# Altium schematic symbol library afstandsbediening_library.SchLib: 23 symbols
Pins are listed as number, name and electrical type; pins without a type are passive.

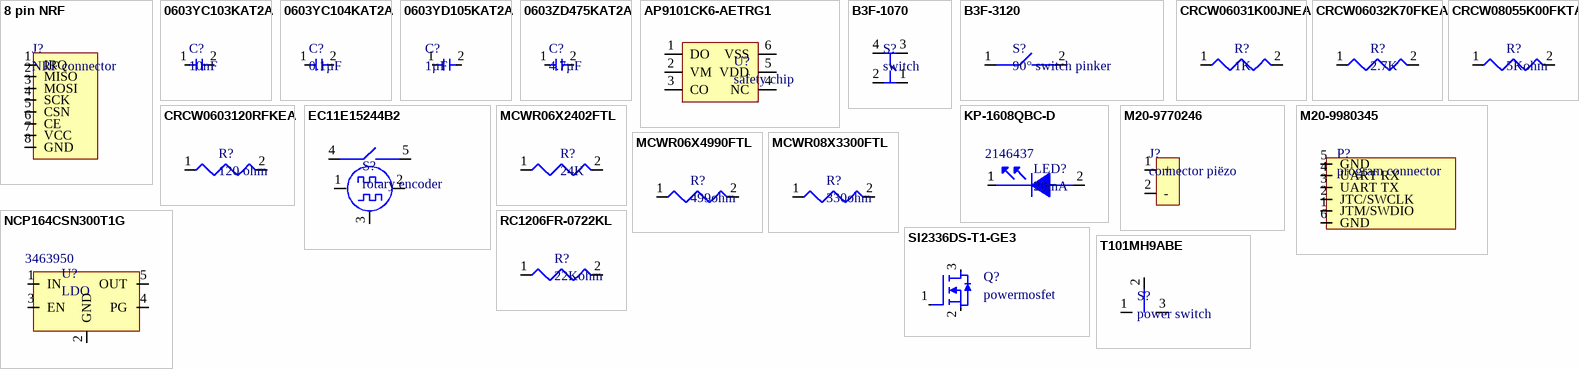
[diagram p0: symbols 8 pin NRF to T101MH9ABE]

## 8 pin NRF
designator J?, comment NRF connector
footprint 8 pin RF
footprint 8 pin RF
footprint 8 pin RF
footprint 8 pin RF
pins: 1 IRQ, 2 MISO, 3 MOSI, 4 SCK, 5 CSN, 6 CE, 7 VCC, 8 GND

## 0603YC103KAT2A
designator C?, comment 10nF
AVX - 0603YC103KAT2A - SMD Multilayer Ceramic Capacitor, 10000 pF, 16 V, 0603 [1608 Metric], ± 10%, X7R, AVX 0603 MLCC; Manufacturer: Kyocera AVX; Voltage Rating (DC): 16V; Dissipation Factor: 3.5%; Supplier 1: Farnell; Manufacturer Part Number: 0603YC103KAT2A; RoHS: Yes; Category: Ceramic Capacitors; Stock 1: 10219; Pricing 1: 10=0.05050, 100=0.04160, 500=0.03270, 1000=0.02510, 2000=0.02040, 4000=0.01630, 20000=0.01090 (EUR); Mount: Surface Mount; Case/Package: 0603; Case Code (Metric): 1608; Case Code (Imperial): 0603; Min Operating Temperature: -55°C; Max Operating Temperature: 125°C; Capacitance: 10nF; Tolerance: 10%; Dielectric: X7R; Packaging: Tape and Reel; Voltage Rating: 16V; Package Quantity: 1; Termination: SMD/SMT; Voltage: 16V; Series: -; Construction: Flat; Length: 1.6mm; Width: 0.032inch; Depth: 0.81mm; Thickness: 0.035inch; Radiation Hardening: No; REACH SVHC: No SVHC; Lead Free: Lead Free; RoHS Compliant: Yes; ComponentLink1URL: https://datasheet.ciiva.com/150/cx7r-150743.pdf?src-supplier=Digi-Key; ComponentLink1Description: https://datasheet.ciiva.com/150/cx7r-150743.pdf?src-supplier=Digi-Key; ComponentLink2URL: https://datasheet.ciiva.com/22683/1679506-22683367.pdf?src-supplier=Element14; ComponentLink2Description: https://datasheet.ciiva.com/22683/1679506-22683367.pdf?src-supplier=Element14; ComponentLink3URL: https://datasheet.ciiva.com/150/cx7r-150744.pdf?src-supplier=Digi-Key; ComponentLink3Description: https://datasheet.ciiva.com/150/cx7r-150744.pdf?src-supplier=Digi-Key; ComponentLink4URL: https://datasheet.ciiva.com/150/cx7r-150745.pdf?src-supplier=Digi-Key; ComponentLink4Description: https://datasheet.ciiva.com/150/cx7r-150745.pdf?src-supplier=Digi-Key; ComponentLink5URL: https://datasheet.ciiva.com/22699/1679506-22699610.pdf?src-supplier=Element14; ComponentLink5Description: https://datasheet.ciiva.com/22699/1679506-22699610.pdf?src-supplier=Element14; ComponentLink6URL: https://datasheet.ciiva.com/5412/cx7r-218113-5412060.pdf?src-supplier=Mouser; ComponentLink6Description: https://datasheet.ciiva.com/5412/cx7r-218113-5412060.pdf?src-supplier=Mouser; ComponentLink7URL: https://datasheet.ciiva.com/7855/1679506-7855103.pdf?src-supplier=Element14; ComponentLink7Description: https://datasheet.ciiva.com/7855/1679506-7855103.pdf?src-supplier=Element14; ComponentLink8URL: https://datasheet.ciiva.com/16375/cx7r-16375919.pdf?src-supplier=Future+Electronics; ComponentLink8Description: https://datasheet.ciiva.com/16375/cx7r-16375919.pdf?src-supplier=Future+Electronics; Supplier Part Number 1: 2280661
footprint 0603
pins: 1, 2 18

## 0603YC104KAT2A
designator C?, comment 0.1µF
Cap Ceramic 0.1uF 16V X7R 10% SMD 0603 125C Paper T/R; Manufacturer: Kyocera AVX; Manufacturer Part Number: 0603YC104KAT2A; Capacitance: 100nF; Insulation Resistance: 100GR; Dissipation Factor: 3.5%; Supplier 1: Farnell; RoHS: Yes; Category: Ceramic Capacitors; Stock 1: 61599; Pricing 1: 10=0.06680, 100=0.05510, 500=0.03380, 1000=0.02430, 2000=0.02420, 4000=0.01760, 20000=0.01470 (EUR); Mount: Surface Mount,PCB; Case/Package: 0603; Number of Pins: 2; Case Code (Metric): 1608; Case Code (Imperial): 0603; Contact Plating: Tin,Matte; Min Operating Temperature: -55°C; Max Operating Temperature: 125°C; Tolerance: 10%; Dielectric: X7R; Packaging: Tape and Reel; Voltage Rating (DC): 16V; Voltage: 16V; Voltage Rating: 16V; Package Quantity: 1; Termination: SMD/SMT; Series: -; Construction: Flat; Length: 1.6mm; Width: 0.032inch; Height: 0.9mm; Depth: 0.81mm; Thickness: 0.035inch; Radiation Hardening: No; REACH SVHC: No SVHC; Lead Free: Lead Free; RoHS Compliant: Yes; ComponentLink1URL: https://datasheet.ciiva.com/11788/0900766b80dc2409-11788525.pdf?src-supplier=RSComponents; ComponentLink1Description: https://datasheet.ciiva.com/11788/0900766b80dc2409-11788525.pdf?src-supplier=RSComponents; ComponentLink2URL: https://datasheet.ciiva.com/1458/84526-1458128.pdf?src-supplier=Element14; ComponentLink2Description: https://datasheet.ciiva.com/1458/84526-1458128.pdf?src-supplier=Element14; ComponentLink3URL: https://datasheet.ciiva.com/1458/84526-1458129.pdf?src-supplier=Element14; ComponentLink3Description: https://datasheet.ciiva.com/1458/84526-1458129.pdf?src-supplier=Element14; ComponentLink4URL: https://datasheet.ciiva.com/150/cx7r-150230.pdf?src-supplier=Digi-Key; ComponentLink4Description: https://datasheet.ciiva.com/150/cx7r-150230.pdf?src-supplier=Digi-Key; ComponentLink5URL: https://datasheet.ciiva.com/28613/683218-28613286.pdf?src-supplier=Element14; ComponentLink5Description: https://datasheet.ciiva.com/28613/683218-28613286.pdf?src-supplier=Element14; ComponentLink6URL: https://datasheet.ciiva.com/150/cx7r-150231.pdf?src-supplier=Digi-Key; ComponentLink6Description: https://datasheet.ciiva.com/150/cx7r-150231.pdf?src-supplier=Digi-Key; ComponentLink7URL: https://datasheet.ciiva.com/150/cx7r-150232.pdf?src-supplier=Digi-Key; ComponentLink7Description: https://datasheet.ciiva.com/150/cx7r-150232.pdf?src-supplier=Digi-Key; ComponentLink8URL: https://datasheet.ciiva.com/5427/cx7r-218113-5427486.pdf?src-supplier=Mouser; ComponentLink8Description: https://datasheet.ciiva.com/5427/cx7r-218113-5427486.pdf?src-supplier=Mouser; ComponentLink9URL: https://datasheet.ciiva.com/14585/70001075-14585102.pdf?src-supplier=Allied+Electronics; ComponentLink9Description: https://datasheet.ciiva.com/14585/70001075-14585102.pdf?src-supplier=Allied+Electronics; ComponentLink10URL: https://datasheet.ciiva.com/11464/cx7r-11464543.pdf?src-supplier=Avnet; ComponentLink10Description: https://datasheet.ciiva.com/11464/cx7r-11464543.pdf?src-supplier=Avnet; Supplier Part Number 1: 1327679
footprint 0603
pins: 1, 2 18

## 0603YD105KAT2A
designator C?, comment 1µF
AVX - 0603YD105KAT2A - SMD Multilayer Ceramic Capacitor, 1 µF, 16 V, 0603 [1608 Metric], ± 10%, X5R, AVX 0603 MLCC; Manufacturer: Kyocera AVX; Capacitance: 1uF; Voltage Rating: 16V; Dissipation Factor: 12.5%; Insulation Resistance: 10GR; Manufacturer Part Number: 0603YD105KAT2A; RoHS: Yes; Category: Ceramic Capacitors; Stock 1: 33961; Pricing 1: 10=0.07550, 100=0.05170, 500=0.03710, 1000=0.03000, 2000=0.02970, 4000=0.02940, 20000=0.02000 (EUR); Mount: Surface Mount; Case/Package: 0603; Number of Pins: 2; Case Code (Metric): 1608; Case Code (Imperial): 0603; Min Operating Temperature: -55°C; Max Operating Temperature: 85°C; Tolerance: 10%; Dielectric: X5R; Voltage Rating (DC): 16V; Packaging: Tape and Reel; Voltage: 16V; Package Quantity: 1; Termination: SMD/SMT; Series: -; Construction: Flat; Length: 1.6mm; Width: 0.81mm; Height: 0.9mm; Depth: 0.81mm; Thickness: 0.035inch; Radiation Hardening: No; REACH SVHC: No SVHC; Lead Free: Lead Free; RoHS Compliant: Yes; ComponentLink1URL: https://datasheet.ciiva.com/11788/0900766b80def1a5-11788563.pdf?src-supplier=RSComponents; ComponentLink1Description: https://datasheet.ciiva.com/11788/0900766b80def1a5-11788563.pdf?src-supplier=RSComponents; ComponentLink2URL: https://datasheet.ciiva.com/34303/2012654-34303835.pdf?src-supplier=Jameco; ComponentLink2Description: https://datasheet.ciiva.com/34303/2012654-34303835.pdf?src-supplier=Jameco; ComponentLink3URL: https://datasheet.ciiva.com/2987/cx5r-2987890.pdf?src-supplier=Avnet; ComponentLink3Description: https://datasheet.ciiva.com/2987/cx5r-2987890.pdf?src-supplier=Avnet; ComponentLink4URL: https://datasheet.ciiva.com/5412/cx5r-5412550.pdf?src-supplier=Mouser; ComponentLink4Description: https://datasheet.ciiva.com/5412/cx5r-5412550.pdf?src-supplier=Mouser; ComponentLink5URL: https://datasheet.ciiva.com/150/cx5r-150392.pdf?src-supplier=Digi-Key; ComponentLink5Description: https://datasheet.ciiva.com/150/cx5r-150392.pdf?src-supplier=Digi-Key; ComponentLink6URL: https://datasheet.ciiva.com/14590/70001028-14590632.pdf?src-supplier=Allied+Electronics; ComponentLink6Description: https://datasheet.ciiva.com/14590/70001028-14590632.pdf?src-supplier=Allied+Electronics; ComponentLink7URL: https://datasheet.ciiva.com/150/cx5r-150393.pdf?src-supplier=Digi-Key; ComponentLink7Description: https://datasheet.ciiva.com/150/cx5r-150393.pdf?src-supplier=Digi-Key; ComponentLink8URL: https://datasheet.ciiva.com/1458/84508-1458137.pdf?src-supplier=Element14; ComponentLink8Description: https://datasheet.ciiva.com/1458/84508-1458137.pdf?src-supplier=Element14; ComponentLink9URL: https://datasheet.ciiva.com/150/cx5r-150394.pdf?src-supplier=Digi-Key; ComponentLink9Description: https://datasheet.ciiva.com/150/cx5r-150394.pdf?src-supplier=Digi-Key; ComponentLink10URL: https://datasheet.ciiva.com/1458/84508-1458138.pdf?src-supplier=Element14; ComponentLink10Description: https://datasheet.ciiva.com/1458/84508-1458138.pdf?src-supplier=Element14; ComponentLink11URL: https://datasheet.ciiva.com/14586/70001028-14586715.pdf?src-supplier=Allied+Electronics; ComponentLink11Description: https://datasheet.ciiva.com/14586/70001028-14586715.pdf?src-supplier=Allied+Electronics; Supplier 1: Farnell; Supplier Part Number 1: 1327680
footprint 0603
pins: 1, 2 18

## 0603ZD475KAT2A
designator C?, comment 4.7µF
AVX - 0603ZD475KAT2A - SMD Multilayer Ceramic Capacitor, 4.7 µF, 10 V, 0603 [1608 Metric], ± 10%, X5R, AVX 0603 MLCC; Manufacturer: Kyocera AVX; Capacitance: 4.7uF; Voltage Rating: 10V; Dissipation Factor: 3.5%; Supplier 1: Farnell; Manufacturer Part Number: 0603ZD475KAT2A; RoHS: Yes; Category: Ceramic Capacitors; Stock 1: 14307; Pricing 1: 10=0.39800, 100=0.22700, 500=0.14700, 1000=0.11700, 2000=0.09810, 4000=0.08400, 20000=0.05250 (EUR); Mount: Surface Mount; Case/Package: 0603; Number of Pins: 2; Case Code (Imperial): 0603; Case Code (Metric): 1608; Contact Plating: Tin,Matte; Min Operating Temperature: -55°C; Max Operating Temperature: 85°C; Tolerance: 10%; Dielectric: X5R; Package Quantity: 1; Voltage Rating (DC): 10V; Packaging: Tape and Reel; Termination: SMD/SMT; Series: -; Voltage: 10V; Construction: Flat; Length: 1.6mm; Width: 0.81mm; Height: 0.9mm; Depth: 0.81mm; Thickness: 0.035inch; Radiation Hardening: No; REACH SVHC: No SVHC; Lead Free: Lead Free; RoHS Compliant: Yes; ComponentLink1URL: https://datasheet.ciiva.com/1458/1796776-1458211.pdf?src-supplier=Element14; ComponentLink1Description: https://datasheet.ciiva.com/1458/1796776-1458211.pdf?src-supplier=Element14; ComponentLink2URL: https://datasheet.ciiva.com/15212/getdatasheetpartid-179504-15212405.pdf?src-supplier=Verical; ComponentLink2Description: https://datasheet.ciiva.com/15212/getdatasheetpartid-179504-15212405.pdf?src-supplier=Verical; ComponentLink3URL: https://datasheet.ciiva.com/11570/cx5r-11570838.pdf?src-supplier=Avnet; ComponentLink3Description: https://datasheet.ciiva.com/11570/cx5r-11570838.pdf?src-supplier=Avnet; ComponentLink4URL: https://datasheet.ciiva.com/6269/cx5r-6269191.pdf?src-supplier=Digi-Key; ComponentLink4Description: https://datasheet.ciiva.com/6269/cx5r-6269191.pdf?src-supplier=Digi-Key; ComponentLink5URL: https://datasheet.ciiva.com/14905/cx5r-14905225.pdf?src-supplier=Digi-Key; ComponentLink5Description: https://datasheet.ciiva.com/14905/cx5r-14905225.pdf?src-supplier=Digi-Key; ComponentLink6URL: https://datasheet.ciiva.com/7855/1666675-7855114.pdf?src-supplier=Element14; ComponentLink6Description: https://datasheet.ciiva.com/7855/1666675-7855114.pdf?src-supplier=Element14; ComponentLink7URL: https://datasheet.ciiva.com/14905/cx5r-14905226.pdf?src-supplier=Digi-Key; ComponentLink7Description: https://datasheet.ciiva.com/14905/cx5r-14905226.pdf?src-supplier=Digi-Key; ComponentLink8URL: https://datasheet.ciiva.com/7614/cx5r-7614716.pdf?src-supplier=Digi-Key; ComponentLink8Description: https://datasheet.ciiva.com/7614/cx5r-7614716.pdf?src-supplier=Digi-Key; ComponentLink9URL: https://datasheet.ciiva.com/28611/1598274-28611548.pdf?src-supplier=Element14; ComponentLink9Description: https://datasheet.ciiva.com/28611/1598274-28611548.pdf?src-supplier=Element14; ComponentLink10URL: https://datasheet.ciiva.com/22700/1796776-22700575.pdf?src-supplier=Element14; ComponentLink10Description: https://datasheet.ciiva.com/22700/1796776-22700575.pdf?src-supplier=Element14; Supplier Part Number 1: 1833806
footprint 0603
pins: 1, 2 18

## AP9101CK6-AETRG1
designator U?, comment safety chip
IC BATT PROT LI-ION 1-CELL SOT26; Manufacturer: Diodes; Manufacturer Part Number: AP9101CK6-AETRG1; Number of Cells: 1; Fault Protection: Over Current,Over Voltage; Supplier 1: Mouser; RoHS: Yes; Category: Battery Management; Stock 1: 3466; Pricing 1: 1=0.44000, 10=0.32300, 50=0.32300, 100=0.16500, 1000=0.12400, 10000=0.10700 (USD); Case/Package: SOT-23-6; Min Operating Temperature: -40°C; Max Operating Temperature: 85°C; RoHS Compliant: Yes; ComponentLink1URL: https://www.diodes.com/assets/Datasheets/AP9101C.pdf?src-supplier=Digi-Key; ComponentLink1Description: https://www.diodes.com/assets/Datasheets/AP9101C.pdf?src-supplier=Digi-Key; Supplier Part Number 1: 621-AP9101CK6-AETRG1
footprint AP9101CK6-AETRG1
pins: 1 DO, 2 VM, 3 CO, 4 NC, 5 VDD, 6 VSS

## B3F-1070
designator S?, comment switch
Switch Tactile N.O. SPST Flat Plunger PC Pins 0.05A 24VDC 0.98N Thru-Hole Bag; Manufacturer: Omron; Manufacturer Part Number: B3F-1070; Mechanical Life: 500000Cycles; Actuator Color: Black; Illumination Type: Non-Illuminated,Illuminated; Max Current Rating: 50mA; Voltage Rating (DC): 24V; Contact Resistance: 100mR; Electrical Life: 1000000Cycles; Number of Poles: 1; Switch Travel: 0.25mm; Switch Function: Off-Mom; Actuator Type: Standard; Actuator Length: 6.1mm; Supplier 1: Farnell; RoHS: Yes; Category: Tactile Switches; Stock 1: 5378; Pricing 1: 10=0.28600, 50=0.25600, 100=0.22600, 500=0.20900 (EUR); Mount: Through Hole; Contact Plating: Silver,Gold; Weight: 0.25g; Contact Material: Gold,Silver; Min Operating Temperature: -25°C; Max Operating Temperature: 70°C; Package Quantity: 1000; Packaging: Bulk; Series: B3F; Throw Configuration: SPST; Operating Force: 0.98N; Max Voltage Rating (DC): 24V; Current Rating: 50mA; Contact Current Rating: 50mA; Termination: PC Pins; Orientation: Straight; Insulation Resistance: 100MR; Length: 6mm; Depth: 7.7mm; REACH SVHC: Unknown; Lead Free: Lead Free; RoHS Compliant: Yes; ComponentLink1URL: https://datasheet.ciiva.com/14540/70175474-14540918.pdf?src-supplier=Allied+Electronics; ComponentLink1Description: https://datasheet.ciiva.com/14540/70175474-14540918.pdf?src-supplier=Allied+Electronics; ComponentLink2URL: https://datasheet.ciiva.com/2899/en-b3f-2899915.pdf?src-supplier=Digi-Key; ComponentLink2Description: https://datasheet.ciiva.com/2899/en-b3f-2899915.pdf?src-supplier=Digi-Key; ComponentLink3URL: https://datasheet.ciiva.com/14142/b3f-eng-datasheet-14142459.pdf?src-supplier=Distrelec; ComponentLink3Description: https://datasheet.ciiva.com/14142/b3f-eng-datasheet-14142459.pdf?src-supplier=Distrelec; ComponentLink4URL: https://datasheet.ciiva.com/26827/getdatasheetpartid-388866-26827340.pdf?src-supplier=Verical; ComponentLink4Description: https://datasheet.ciiva.com/26827/getdatasheetpartid-388866-26827340.pdf?src-supplier=Verical; ComponentLink5URL: https://datasheet.ciiva.com/20148/78-0136-20148405.pdf?src-supplier=Rapid+Electronics; ComponentLink5Description: https://datasheet.ciiva.com/20148/78-0136-20148405.pdf?src-supplier=Rapid+Electronics; ComponentLink6URL: https://datasheet.ciiva.com/16154/en-b3f-16154903.pdf?src-supplier=Onlinecomponents.com; ComponentLink6Description: https://datasheet.ciiva.com/16154/en-b3f-16154903.pdf?src-supplier=Onlinecomponents.com; ComponentLink7URL: https://datasheet.ciiva.com/5283/b3f-0811-26083-5283693.pdf?src-supplier=Mouser; ComponentLink7Description: https://datasheet.ciiva.com/5283/b3f-0811-26083-5283693.pdf?src-supplier=Mouser; ComponentLink8URL: https://datasheet.ciiva.com/15183/getdatasheetpartid-153449-15183757.pdf?src-supplier=Verical; ComponentLink8Description: https://datasheet.ciiva.com/15183/getdatasheetpartid-153449-15183757.pdf?src-supplier=Verical; Supplier Part Number 1: 959698
footprint B3F-1070
pins: 1, 2, 3, 4

## B3F-3120
designator S?, comment 90° switch pinker
OMRON ELECTRONIC COMPONENTS         B3F3120            Tactile Switch, Non Illuminated, 0.98 N, 24 V, 50 mA, Solder, B3F Series; Manufacturer Part Number: B3F-3120; Mechanical Life: 1000000Cycles; Actuator Color: Black; Contact Current Rating: 50mA; Operating Force: 0.98N; Voltage Rating (DC): 24V; Throw Configuration: SPST; Contact Resistance: 100mR; Illumination Type: Non-Illuminated,Illuminated; Number of Poles: 1; Switch Travel: 0.25mm; Switch Function: Off-Mom; Actuator Type: Standard; Actuator Length: 1.6mm; Ratings: IP00; Supplier 1: Farnell; Manufacturer: Omron; RoHS: Yes; Category: Keylock Switches; Stock 1: 145; Pricing 1: 10=0.35800, 50=0.32000, 100=0.28200, 500=0.26300 (EUR); Mount: Through Hole; Contact Material: Gold,Silver; Contact Plating: Gold; Weight: 0.25g; Min Operating Temperature: -25°C; Max Operating Temperature: 70°C; Current Rating: 50mA; Package Quantity: 1000; Packaging: Bulk; Max Voltage Rating (DC): 24V; Max Current Rating: 50mA; Termination: PC Pins; Electrical Life: 1000000Cycles; Orientation: Right Angle; Series: B3F; Contact Type: 1 maker; Length: 7.3mm; Width: 6mm; Height: 3.85mm; Depth: 7.15mm; Radiation Hardening: No; REACH SVHC: Unknown; Lead Free: Lead Free; RoHS Compliant: Yes; ComponentLink1URL: https://datasheet.ciiva.com/26883/getdatasheetpartid-569160-26883377.pdf?src-supplier=Verical; ComponentLink1Description: https://datasheet.ciiva.com/26883/getdatasheetpartid-569160-26883377.pdf?src-supplier=Verical; ComponentLink2URL: https://datasheet.ciiva.com/2900/b3f-0811-2900017.pdf?src-supplier=Digi-Key; ComponentLink2Description: https://datasheet.ciiva.com/2900/b3f-0811-2900017.pdf?src-supplier=Digi-Key; ComponentLink3URL: https://datasheet.ciiva.com/30263/en-b3f-30263926.pdf?src-supplier=Onlinecomponents.com; ComponentLink3Description: https://datasheet.ciiva.com/30263/en-b3f-30263926.pdf?src-supplier=Onlinecomponents.com; ComponentLink4URL: https://datasheet.ciiva.com/48509/b3f-48509416.pdf?src-supplier=Distrelec; ComponentLink4Description: https://datasheet.ciiva.com/48509/b3f-48509416.pdf?src-supplier=Distrelec; ComponentLink5URL: https://datasheet.ciiva.com/16154/en-b3f-16154921.pdf?src-supplier=Onlinecomponents.com; ComponentLink5Description: https://datasheet.ciiva.com/16154/en-b3f-16154921.pdf?src-supplier=Onlinecomponents.com; ComponentLink6URL: https://datasheet.ciiva.com/15183/getdatasheetpartid-153427-15183754.pdf?src-supplier=Verical; ComponentLink6Description: https://datasheet.ciiva.com/15183/getdatasheetpartid-153427-15183754.pdf?src-supplier=Verical; ComponentLink7URL: https://datasheet.ciiva.com/1532/611570-1532588.pdf?src-supplier=Element14; ComponentLink7Description: https://datasheet.ciiva.com/1532/611570-1532588.pdf?src-supplier=Element14; ComponentLink8URL: https://datasheet.ciiva.com/16859/70175475-16859533.pdf?src-supplier=Allied+Electronics; ComponentLink8Description: https://datasheet.ciiva.com/16859/70175475-16859533.pdf?src-supplier=Allied+Electronics; Supplier Part Number 1: 1608275
footprint B3F-3120 - duplicate
pins: 1, 2

## CRCW06031K00JNEA
designator R?, comment 1K
VISHAY - CRCW06031K00JNEA - SMD Chip Resistor, 0603 [1608 Metric], 1 kohm, CRCW e3 Series, 75 V, Thick Film, 100 mW; Manufacturer: Vishay Dale; Tolerance: 5%; Resistance: 1kR; Temperature Coefficient: 200ppm/°C; Power Rating: 100mW; Voltage Rating: 75V; Supplier 1: Farnell; Manufacturer Part Number: CRCW06031K00JNEA; RoHS: Yes; Category: Chip SMD Resistors; Stock 1: 180292; Pricing 1: 10=0.02520, 100=0.01160, 500=0.00900, 1000=0.00630, 2500=0.00560, 5000=0.00480, 25000=0.00420 (EUR); Case/Package: 0603; Number of Pins: 2; Contact Plating: Tin; Case Code (Metric): 1608; Case Code (Imperial): 0603; Weight: 7.1E-05oz; Size Code: 0603; Min Operating Temperature: -55°C; Max Operating Temperature: 155°C; Resistor Type: Thick Film; Packaging: Tape and Reel; Package Quantity: 1; Number of Terminations: 2; Termination: SMD/SMT; Max Power Dissipation: 100mW; Features: Automotive AEC-Q200; Series: CRCW; Construction: Rectangular; Voltage Rating (DC): 75V; Resistance Tolerance: 5%; Length: 1.55mm; Width: 0.033inch; Height: 0.02inch; Depth: 0.85mm; Radiation Hardening: No; Military Standard: Not; Lead Free: Lead Free; RoHS Compliant: Yes; REACH SVHC: Unknown; ComponentLink1URL: https://datasheet.ciiva.com/2462/dcrcwe3-2462023.pdf?src-supplier=Digi-Key; ComponentLink1Description: https://datasheet.ciiva.com/2462/dcrcwe3-2462023.pdf?src-supplier=Digi-Key; ComponentLink2URL: https://datasheet.ciiva.com/2462/dcrcwe3-2462024.pdf?src-supplier=Digi-Key; ComponentLink2Description: https://datasheet.ciiva.com/2462/dcrcwe3-2462024.pdf?src-supplier=Digi-Key; ComponentLink3URL: https://datasheet.ciiva.com/5548/dcrcwe3-109170-5548152.pdf?src-supplier=Mouser; ComponentLink3Description: https://datasheet.ciiva.com/5548/dcrcwe3-109170-5548152.pdf?src-supplier=Mouser; ComponentLink4URL: https://datasheet.ciiva.com/16515/dcrcwe3-16515080.pdf?src-supplier=Avnet+Asia; ComponentLink4Description: https://datasheet.ciiva.com/16515/dcrcwe3-16515080.pdf?src-supplier=Avnet+Asia; ComponentLink5URL: https://datasheet.ciiva.com/16211/dcrcwe3-16211589.pdf?src-supplier=Future+Electronics; ComponentLink5Description: https://datasheet.ciiva.com/16211/dcrcwe3-16211589.pdf?src-supplier=Future+Electronics; ComponentLink6URL: https://datasheet.ciiva.com/2462/dcrcwe3-2462022.pdf?src-supplier=Digi-Key; ComponentLink6Description: https://datasheet.ciiva.com/2462/dcrcwe3-2462022.pdf?src-supplier=Digi-Key; ComponentLink7URL: https://datasheet.ciiva.com/46441/1533075-46441625.pdf?src-supplier=Element14; ComponentLink7Description: https://datasheet.ciiva.com/46441/1533075-46441625.pdf?src-supplier=Element14; ComponentLink8URL: https://datasheet.ciiva.com/28621/1847332-28621386.pdf?src-supplier=Element14; ComponentLink8Description: https://datasheet.ciiva.com/28621/1847332-28621386.pdf?src-supplier=Element14; Supplier Part Number 1: 1652851
footprint CRCW0603
footprint CRCW0603
pins: 1, 2

## CRCW06032K70FKEA
designator R?, comment 2.7K
SMD Resistor, Thick film 2.7 kOhm,  ±  1 %, 0603, CRCW06032K70FKEA, Vishay; Tolerance: 1%; Resistance: 2.7kR; Temperature Coefficient: 100ppm/°C; Power Rating: 100mW; Voltage Rating: 75V; Manufacturer: Vishay; Manufacturer Part Number: CRCW06032K70FKEA; RoHS: Yes; Category: Chip SMD Resistors; Stock 1: 9990; Pricing 1: 10=0.02730, 100=0.01370, 500=0.01000, 1000=0.00630, 2500=0.00540, 5000=0.00480, 25000=0.00420 (EUR); Mount: Surface Mount; Case/Package: 0603; Number of Pins: 2; Case Code (Imperial): 0603; Case Code (Metric): 1608; Contact Plating: Tin,Lead; Weight: 7.1E-05oz; Min Operating Temperature: -55°C; Max Operating Temperature: 155°C; Packaging: Tape and Reel; Resistor Type: Thick Film; Termination: SMD/SMT; Number of Terminations: 2; Max Power Dissipation: 100mW; Package Quantity: 5000; Voltage Rating (DC): 75V; Features: Automotive AEC-Q200; Series: CRCW; Resistance Tolerance: 1%; Construction: Rectangular; Technology: THICK FILM; Working Voltage: 75V; Length: 1.55mm; Width: 0.85mm; Height: 0.45mm; Depth: 0.85mm; Radiation Hardening: No; RoHS Compliant: Yes; REACH SVHC: Unknown; Military Standard: Not; Lead Free: Lead Free; ComponentLink1URL: https://datasheet.ciiva.com/11809/0900766b80d98afc-11809070.pdf?src-supplier=RSComponents; ComponentLink1Description: https://datasheet.ciiva.com/11809/0900766b80d98afc-11809070.pdf?src-supplier=RSComponents; ComponentLink2URL: https://datasheet.ciiva.com/5542/dcrcwe3-109170-5542310.pdf?src-supplier=Mouser; ComponentLink2Description: https://datasheet.ciiva.com/5542/dcrcwe3-109170-5542310.pdf?src-supplier=Mouser; ComponentLink3URL: https://datasheet.ciiva.com/7841/1697337-7841580.pdf?src-supplier=Element14; ComponentLink3Description: https://datasheet.ciiva.com/7841/1697337-7841580.pdf?src-supplier=Element14; ComponentLink4URL: https://datasheet.ciiva.com/15225/getdatasheetpartid-32834-15225340.pdf?src-supplier=Verical; ComponentLink4Description: https://datasheet.ciiva.com/15225/getdatasheetpartid-32834-15225340.pdf?src-supplier=Verical; ComponentLink5URL: https://datasheet.ciiva.com/16782/70201119-16782316.pdf?src-supplier=Allied+Electronics; ComponentLink5Description: https://datasheet.ciiva.com/16782/70201119-16782316.pdf?src-supplier=Allied+Electronics; ComponentLink6URL: https://datasheet.ciiva.com/16882/dcrcw-16882972.pdf?src-supplier=Avnet+Europe; ComponentLink6Description: https://datasheet.ciiva.com/16882/dcrcw-16882972.pdf?src-supplier=Avnet+Europe; ComponentLink7URL: https://datasheet.ciiva.com/16204/dcrcwe3-16204333.pdf?src-supplier=Future+Electronics; ComponentLink7Description: https://datasheet.ciiva.com/16204/dcrcwe3-16204333.pdf?src-supplier=Future+Electronics; ComponentLink8URL: https://datasheet.ciiva.com/26314/fld-crcw-e3-data-en-26314702.pdf?src-supplier=Distrelec; ComponentLink8Description: https://datasheet.ciiva.com/26314/fld-crcw-e3-data-en-26314702.pdf?src-supplier=Distrelec; Supplier 1: Farnell; Supplier Part Number 1: 1738910
footprint CRCW0603
pins: 1, 2

## CRCW08055K00FKTA
designator R?, comment 5Kohm
Res Thick Film 0402 4.99K Ohm 1% 1/10W +/-100ppm/ßC Molded SMD Punched Carrier T/R; Manufacturer: Panasonic; Manufacturer Part Number: ERJ-2RKF4991X; Resistance: 4.99kR; Power Rating: 100mW; Voltage Rating: 50V; Temperature Coefficient: 100ppm/°C; RoHS: Yes; Category: Chip SMD Resistors; Stock 1: 164767; Pricing 1: 10=0.01960, 100=0.00930, 500=0.00630, 2500=0.00570, 5000=0.00530, 10000=0.00490, 50000=0.00440 (EUR); Mount: Surface Mount; Case/Package: 0402; Case Code (Metric): 1005; Case Code (Imperial): 0402; Weight: 2.8E-05oz; Contact Plating: Tin; Min Operating Temperature: -55°C; Max Operating Temperature: 155°C; Tolerance: 1%; Packaging: Tape and Reel; Package Quantity: 1; Resistor Type: Thick Film; Number of Terminations: 2; Termination: SMD/SMT; Max Power Dissipation: 100mW; Voltage Rating (DC): 50V; Working Voltage: 50V; Features: Automotive AEC-Q200; Series: ERJ; Resistance Tolerance: 1%; Technology: THICK FILM; Construction: Rectangular; Length: 1mm; Width: 0.02inch; Height: 0.016inch; Depth: 0.5mm; Radiation Hardening: No; REACH SVHC: No SVHC; Military Standard: Not; Lead Free: Lead Free; RoHS Compliant: Yes; ComponentLink1URL: https://datasheet.ciiva.com/16773/70260748-16773110.pdf?src-supplier=Allied+Electronics; ComponentLink1Description: https://datasheet.ciiva.com/16773/70260748-16773110.pdf?src-supplier=Allied+Electronics; ComponentLink2URL: https://datasheet.ciiva.com/22749/1678782-22749654.pdf?src-supplier=Element14; ComponentLink2Description: https://datasheet.ciiva.com/22749/1678782-22749654.pdf?src-supplier=Element14; ComponentLink3URL: https://datasheet.ciiva.com/24158/aoa0000ce2-24158871.pdf?src-supplier=Mouser; ComponentLink3Description: https://datasheet.ciiva.com/24158/aoa0000ce2-24158871.pdf?src-supplier=Mouser; ComponentLink4URL: https://datasheet.ciiva.com/46388/426256-46388311.pdf?src-supplier=Element14; ComponentLink4Description: https://datasheet.ciiva.com/46388/426256-46388311.pdf?src-supplier=Element14; ComponentLink5URL: https://datasheet.ciiva.com/16199/aoa0000ce2-16199546.pdf?src-supplier=Future+Electronics; ComponentLink5Description: https://datasheet.ciiva.com/16199/aoa0000ce2-16199546.pdf?src-supplier=Future+Electronics; ComponentLink6URL: https://datasheet.ciiva.com/16775/70260748-16775018.pdf?src-supplier=Allied+Electronics; ComponentLink6Description: https://datasheet.ciiva.com/16775/70260748-16775018.pdf?src-supplier=Allied+Electronics; ComponentLink7URL: https://datasheet.ciiva.com/46376/426256-46376955.pdf?src-supplier=Element14; ComponentLink7Description: https://datasheet.ciiva.com/46376/426256-46376955.pdf?src-supplier=Element14; ComponentLink8URL: https://datasheet.ciiva.com/48530/aoa0000ce2-48530971.pdf?src-supplier=Avnet; ComponentLink8Description: https://datasheet.ciiva.com/48530/aoa0000ce2-48530971.pdf?src-supplier=Avnet; Supplier 1: Farnell; Supplier Part Number 1: 2616759
footprint ERJ-2RK
footprint CRCW08055K00FKTA
pins: 1, 2

## CRCW0603120RFKEA
designator R?, comment 120 ohm
Res Thick Film 0603 120 Ohm 1% 1/10W ±100ppm/°C Molded SMD Paper T/R; Manufacturer: Vishay; Manufacturer Part Number: CRCW0603120RFKEA; Resistance: 120R; Max Power Dissipation: 100mW; Voltage Rating: 75V; Supplier 1: Farnell; RoHS: Yes; Category: Chip SMD Resistors; Stock 1: 98285; Pricing 1: 10=0.02730, 100=0.01530, 500=0.01020, 1000=0.00500, 2500=0.00450, 5000=0.00390, 25000=0.00330 (EUR); Mount: Surface Mount; Case/Package: 0603; Case Code (Metric): 1608; Case Code (Imperial): 0603; Contact Plating: Tin; Weight: 7.1E-05oz; Min Operating Temperature: -55°C; Max Operating Temperature: 155°C; Tolerance: 1%; Resistor Type: Thick Film; Temperature Coefficient: 100ppm/°C; Packaging: Tape and Reel; Number of Terminations: 2; Package Quantity: 10; Power Rating: 100mW; Termination: SMD/SMT; Features: Automotive AEC-Q200; Series: CRCW; Technology: THICK FILM; Construction: Rectangular; Resistance Tolerance: 1%; Voltage Rating (DC): 75V; Working Voltage: 75V; Length: 1.55mm; Width: 0.033inch; Height: 0.45mm; Depth: 0.85mm; Radiation Hardening: No; RoHS Compliant: Yes; REACH SVHC: Unknown; Military Standard: Not; Lead Free: Lead Free; ComponentLink1URL: https://datasheet.ciiva.com/11811/0900766b80d98afc-11811523.pdf?src-supplier=RSComponents; ComponentLink1Description: https://datasheet.ciiva.com/11811/0900766b80d98afc-11811523.pdf?src-supplier=RSComponents; ComponentLink2URL: https://datasheet.ciiva.com/2513/dcrcwe3-2513575.pdf?src-supplier=Digi-Key; ComponentLink2Description: https://datasheet.ciiva.com/2513/dcrcwe3-2513575.pdf?src-supplier=Digi-Key; ComponentLink3URL: https://datasheet.ciiva.com/2513/dcrcwe3-2513576.pdf?src-supplier=Digi-Key; ComponentLink3Description: https://datasheet.ciiva.com/2513/dcrcwe3-2513576.pdf?src-supplier=Digi-Key; ComponentLink4URL: https://datasheet.ciiva.com/26316/fld-crcw-e3-data-en-26316568.pdf?src-supplier=Distrelec; ComponentLink4Description: https://datasheet.ciiva.com/26316/fld-crcw-e3-data-en-26316568.pdf?src-supplier=Distrelec; ComponentLink5URL: https://datasheet.ciiva.com/2513/dcrcwe3-2513577.pdf?src-supplier=Digi-Key; ComponentLink5Description: https://datasheet.ciiva.com/2513/dcrcwe3-2513577.pdf?src-supplier=Digi-Key; ComponentLink6URL: https://datasheet.ciiva.com/5544/dcrcwe3-109170-5544139.pdf?src-supplier=Mouser; ComponentLink6Description: https://datasheet.ciiva.com/5544/dcrcwe3-109170-5544139.pdf?src-supplier=Mouser; ComponentLink7URL: https://datasheet.ciiva.com/7777/1533075-7777275.pdf?src-supplier=Element14; ComponentLink7Description: https://datasheet.ciiva.com/7777/1533075-7777275.pdf?src-supplier=Element14; ComponentLink8URL: https://datasheet.ciiva.com/7777/1697337-7777276.pdf?src-supplier=Element14; ComponentLink8Description: https://datasheet.ciiva.com/7777/1697337-7777276.pdf?src-supplier=Element14; ComponentLink9URL: https://datasheet.ciiva.com/16725/70201119-16725181.pdf?src-supplier=Allied+Electronics; ComponentLink9Description: https://datasheet.ciiva.com/16725/70201119-16725181.pdf?src-supplier=Allied+Electronics; Supplier Part Number 1: 1652832
footprint CRCW0603
pins: 1, 2

## EC11E15244B2
designator S?, comment rotary encoder
ALPS - EC11E15244B2 - ENCODER, VERTICAL, 11MM, 30DET,15PPR; Manufacturer: Alps Electric; Number of Channels: 2; Nominal Supply Voltage (DC): 5V; Pulses per Revolution: 15; Built in Switch: Yes; Hole Diameter: 1.5mm; Supplier 1: Farnell; Manufacturer Part Number: EC11E15244B2; RoHS: Yes; Category: Encoders; Stock 1: 1927; Pricing 1: 1=4.11000, 5=3.45000, 10=3.19000, 20=2.97000, 50=2.83000 (EUR); Mount: Through Hole; Case/Package: Metal; Number of Pins: 5; Min Operating Temperature: -40°C; Max Operating Temperature: 85°C; Packaging: Tray; Package Quantity: 1200; Termination: Through Hole; Max Supply Voltage (AC): 5V; Radiation Hardening: No; RoHS Compliant: Yes; ComponentLink1Description: https://datasheet.ciiva.com/11807/0900766b80f4c221-11807911.pdf?src-supplier=RSComponents; ComponentLink2URL: https://datasheet.ciiva.com/18154/getdatasheetpartid-652491-18154142.pdf?src-supplier=Verical; ComponentLink2Description: https://datasheet.ciiva.com/18154/getdatasheetpartid-652491-18154142.pdf?src-supplier=Verical; ComponentLink3URL: https://datasheet.ciiva.com/1310/1702859-1310642.pdf?src-supplier=Element14; ComponentLink3Description: https://datasheet.ciiva.com/1310/1702859-1310642.pdf?src-supplier=Element14; Supplier Part Number 1: 2064991
footprint EC11E15244B2
pins: 1, 2, 3, 4, 5

## KP-1608QBC-D
designator LED?, comment 20mA  Supplier Part Number 1: 2146437
LED Uni-Color Blue 468nm 2-Pin Chip LED T/R; Manufacturer: Kingbright; Manufacturer Part Number: KP-1608QBC-D; Lens Color: Clear; Viewing Angle: 120°; Lens Style: Diffused,Colorless,Circular,Rectangular; Number of LEDs: 1; Wavelength: 465nm; Luminous Intensity: 100mcd; Forward Voltage: 3.3V; Dominant Wavelength: 470nm; RoHS: No; Category: LEDs; Stock 1: 27050; Pricing 1: 5=0.24200, 50=0.18300, 100=0.16000, 500=0.13700, 1000=0.13400 (EUR); Mount: Surface Mount; Case/Package: 1608; Number of Pins: 2; Color: Blue; Packaging: Tape and Reel; Forward Current: 20mA; Series: KP; Length: 0.8mm; Width: 1.6mm; Height: 1.1mm; Radiation Hardening: No; REACH SVHC: No SVHC; RoHS Compliant: No; ComponentLink1URL: https://datasheet.ciiva.com/8060/1655842-8060422.pdf?src-supplier=Element14; ComponentLink1Description: https://datasheet.ciiva.com/8060/1655842-8060422.pdf?src-supplier=Element14; ComponentLink2URL: https://datasheet.ciiva.com/41454/001050379-da-01-en-smd-chipled-bl-0603-kp-1608qbc-d-41454603.pdf?src-supplier=Conrad; ComponentLink2Description: https://datasheet.ciiva.com/41454/001050379-da-01-en-smd-chipled-bl-0603-kp-1608qbc-d-41454603.pdf?src-supplier=Conrad; Supplier 1: Farnell
footprint KP-1608QBC-D
pins: 1, 1, 2

## M20-9770246
designator J?, comment connector piëzo
Conn Unshrouded Header HDR 2 POS 2.54mm Solder ST Thru-Hole Bag; Manufacturer: Harwin; Manufacturer Part Number: M20-9770246; Number of Contacts: 2; Max Current Rating: 3A; Contact Resistance: 30mR; Voltage Rating: 750V; Connector Type: Male Pin; Supplier 1: Digi-Key; RoHS: Yes; Category: Headers and Wire Housings; Stock 1: 87004; Pricing 1: 1=0.12000, 10=0.10900, 25=0.08120, 50=0.06960, 250=0.05808, 750=0.05227, 1000=0.04878, 12000=0.03717, 24000=0.03368 (USD); Mount: Through Hole; Case/Package: SIL; Contact Plating: Tin; Contact Material: Brass; Color: Black; Housing Color: Black; Housing Material: Nylon; Min Operating Temperature: -40°C; Max Operating Temperature: 105°C; Number of Rows: 1; Termination: Solder; Package Quantity: 1000; Packaging: Bulk; Current Rating: 3A; Number of Positions: 2; Orientation: Straight; Series: M20; Contact Type: Male Pin; Length: 5.08mm; Pitch: 2.54mm; Contact Mating Length: 0.228inch; Depth: 2.54mm; Radiation Hardening: No; RoHS Compliant: Yes; ComponentLink1URL: https://datasheet.ciiva.com/26852/getdatasheetpartid-491110-26852182.pdf?src-supplier=Verical; ComponentLink1Description: https://datasheet.ciiva.com/26852/getdatasheetpartid-491110-26852182.pdf?src-supplier=Verical; ComponentLink2URL: https://datasheet.ciiva.com/5160/m20-977-5160312.pdf?src-supplier=Mouser; ComponentLink2Description: https://datasheet.ciiva.com/5160/m20-977-5160312.pdf?src-supplier=Mouser; Supplier Part Number 1: 952-1770-ND
footprint M20-9770246 - duplicate
pins: 1 +, 2 -

## M20-9980345
designator P?, comment program connector
HARWIN - M20-9980345 - Board-To-Board Connector, Vertical, 2.54 mm, 6 Contacts, Header, M20 Series, Through Hole, 2 Rows; Number of Contacts: 6; Max Current Rating: 3A; Contact Resistance: 25mR; Gender: Male; Insulation Resistance: 10GR; Connector Type: Male Pin; Pitch: 2.54mm; Row Spacing: 0.1inch; Supplier 1: Digi-Key; Manufacturer: Harwin; Manufacturer Part Number: M20-9980345; RoHS: Yes; Category: Headers and Wire Housings; Stock 1: 24477; Pricing 1: 1=0.29000, 10=0.27300, 100=0.19110, 500=0.16380, 1000=0.13650, 5000=0.11700, 10000=0.10920 (USD); Mount: Through Hole; Contact Plating: Gold; Contact Material: Brass,Bronze; Color: Black; Weight: 0.125lb; Housing Color: Black; Housing Material: Nylon; Insulation Material: Polyester; Min Operating Temperature: -40°C; Max Operating Temperature: 105°C; Number of Rows: 2; Termination: Solder; Package Quantity: 1000; Current Rating: 3A; Packaging: Bag; Number of Positions: 6; Orientation: Straight; Series: M20; Contact Type: Male Pin; Length: 7.62mm; Width: 0.25inch; Height: 0.125inch; Contact Mating Length: 0.24inch; Depth: 5.08mm; Radiation Hardening: No; REACH SVHC: No SVHC; RoHS Compliant: Yes; ComponentLink1URL: https://datasheet.ciiva.com/6789/91635-6789923.pdf?src-supplier=Newark; ComponentLink1Description: https://datasheet.ciiva.com/6789/91635-6789923.pdf?src-supplier=Newark; ComponentLink2URL: https://datasheet.ciiva.com/11746/0900766b80da602b-11746662.pdf?src-supplier=RSComponents; ComponentLink2Description: https://datasheet.ciiva.com/11746/0900766b80da602b-11746662.pdf?src-supplier=RSComponents; ComponentLink3URL: https://datasheet.ciiva.com/26852/getdatasheetpartid-420465-26852189.pdf?src-supplier=Verical; ComponentLink3Description: https://datasheet.ciiva.com/26852/getdatasheetpartid-420465-26852189.pdf?src-supplier=Verical; ComponentLink4URL: https://datasheet.ciiva.com/6830/m20-998-6830775.pdf?src-supplier=Digi-Key; ComponentLink4Description: https://datasheet.ciiva.com/6830/m20-998-6830775.pdf?src-supplier=Digi-Key; ComponentLink5URL: https://datasheet.ciiva.com/8046/112195-8046904.pdf?src-supplier=Element14; ComponentLink5Description: https://datasheet.ciiva.com/8046/112195-8046904.pdf?src-supplier=Element14; Supplier Part Number 1: 952-2120-ND
footprint M20-9980345
pins: 1 JTM/SWDIO, 2 JTC/SWCLK, 3 UART TX, 4 UART RX, 5 GND, 6 GND

## MCWR06X2402FTL
designator R?, comment 24K
MULTICOMP - MCWR06X2402FTL - RES, 24K, 1%, 0.1W, THICK FILM; Resistance: 24kR; Power Rating: 100mW; Voltage Rating: 50V; Temperature Coefficient: 100ppm/°C; Supplier 1: Farnell; Manufacturer: Multicomp; Manufacturer Part Number: MCWR06X2402FTL; RoHS: Yes; Stock 1: 22057; Pricing 1: 10=0.00510, 100=0.00470, 500=0.00420, 1000=0.00380, 2500=0.00230 (EUR); Case/Package: 0603; Case Code (Imperial): 0603; Case Code (Metric): 1608; Tolerance: 1%; Packaging: Tape and Reel; Voltage Rating (DC): 50V; Resistor Type: Thick Film; REACH SVHC: Unknown; ComponentLink1URL: http://www.farnell.com/datasheets/2563624.pdf?src-supplier=Farnell; ComponentLink1Description: http://www.farnell.com/datasheets/2563624.pdf?src-supplier=Farnell; ComponentLink2URL: http://www.farnell.com/datasheets/1849611.pdf?src-supplier=Element14; ComponentLink2Description: http://www.farnell.com/datasheets/1849611.pdf?src-supplier=Element14; Supplier Part Number 1: 2447308
footprint MCWR06
pins: 1, 2

## MCWR06X4990FTL
designator R?, comment 499ohm
Res, 499R, 1%, 0.1W, 0603, Thick Film; Manufacturer: Multicomp; Manufacturer Part Number: MCWR06X4990FTL; Supplier 1: Farnell; RoHS: Yes; Stock 1: 34389; Pricing 1: 10=0.00450, 100=0.00410, 500=0.00370, 1000=0.00330, 2500=0.00240 (EUR); Supplier Part Number 1: 2694886
footprint MCWR06
pins: 1, 2

## MCWR08X3300FTL
designator R?, comment 330ohm
MULTICOMP         MCWR08X3300FTL            Surface Mount Chip Resistor, Thick Film, MCWR Series, 330 ohm, 125 mW,  1%, 150 V; Resistance: 330R; Power Rating: 125mW; Voltage Rating: 150V; Temperature Coefficient: 100ppm/°C; Supplier 1: Farnell; Manufacturer: Multicomp; Manufacturer Part Number: MCWR08X3300FTL; RoHS: Yes; Category: Uncategorized; Stock 1: 107956; Pricing 1: 10=0.00780, 100=0.00670, 500=0.00560, 1000=0.00410, 2500=0.00340 (EUR); Mount: Surface Mount; Case/Package: 0805; Case Code (Metric): 2012; Case Code (Imperial): 0805; Tolerance: 1%; Packaging: Tape and Reel; Resistor Type: Thick Film; Voltage Rating (DC): 150V; REACH SVHC: Unknown; ComponentLink1URL: https://datasheet.ciiva.com/46398/1849611-46398495.pdf?src-supplier=Element14; ComponentLink1Description: https://datasheet.ciiva.com/46398/1849611-46398495.pdf?src-supplier=Element14; Supplier Part Number 1: 2447638
footprint MCWR08
footprint MCWR08 - duplicate
pins: 1, 2

## NCP164CSN300T1G
designator U?, comment LDO  Supplier Part Number 1: 3463950
MAX 5V, MIN 1.6V OUTPUT 3V; Manufacturer: ON Semiconductor; Manufacturer Part Number: NCP164CSN300T1G; RoHS: No; Stock 1: 3000; Pricing 1: 1=0.39400, 50=0.32400, 100=0.25600, 250=0.23300, 500=0.22700, 1000=0.19200, 2500=0.17300, 5000=0.16700 (EUR); Supplier 1: Farnell
footprint NCP164C (LDO)
pins: 1 IN, 2 GND, 3 EN, 4 PG, 5 OUT

## RC1206FR-0722KL
designator R?, comment 22Kohm
YAGEO - RC1206FR-0722KL - SMD Chip Resistor, 1206 [3216 Metric], 22 kohm, RC Series, 200 V, Thick Film, 250 mW; Tolerance: 1%; Resistance: 22kR; Temperature Coefficient: 100ppm/°C; Voltage Rating (DC): 200V; Power Rating: 250mW; Supplier 1: Farnell; Manufacturer: Yageo; Manufacturer Part Number: RC1206FR-0722KL; RoHS: Yes; Category: Chip SMD Resistors; Stock 1: 371; Pricing 1: 10=0.04740, 100=0.02190, 500=0.01810, 1000=0.01420, 2500=0.01290 (EUR); Case/Package: 1206; Number of Pins: 2; Case Code (Metric): 3216; Case Code (Imperial): 1206; Size Code: 1206; Min Operating Temperature: -55°C; Max Operating Temperature: 155°C; Resistor Type: Thick Film; Packaging: Tape and Reel; Voltage Rating: 200V; Package Quantity: 5000; Number of Terminations: 2; Termination: SMD/SMT; Max Power Dissipation: 250mW; Features: Moisture Resistant; Series: RC; Resistance Tolerance: 1%; Construction: Rectangular; Technology: THICK FILM; Length: 3.1mm; Width: 0.063inch; Height: 0.026inch; Depth: 1.6mm; REACH SVHC: No SVHC; Lead Free: Lead Free; Military Standard: Not; RoHS Compliant: Yes; ComponentLink1URL: https://datasheet.ciiva.com/11809/0900766b80c6630a-11809497.pdf?src-supplier=RSComponents; ComponentLink1Description: https://datasheet.ciiva.com/11809/0900766b80c6630a-11809497.pdf?src-supplier=RSComponents; ComponentLink2URL: https://datasheet.ciiva.com/2461/pyu-rc1206-51-rohs-l-4-2461686.pdf?src-supplier=Digi-Key; ComponentLink2Description: https://datasheet.ciiva.com/2461/pyu-rc1206-51-rohs-l-4-2461686.pdf?src-supplier=Digi-Key; ComponentLink3URL: https://datasheet.ciiva.com/7857/444357-7857303.pdf?src-supplier=Element14; ComponentLink3Description: https://datasheet.ciiva.com/7857/444357-7857303.pdf?src-supplier=Element14; ComponentLink4URL: https://datasheet.ciiva.com/7857/444357-7857304.pdf?src-supplier=Element14; ComponentLink4Description: https://datasheet.ciiva.com/7857/444357-7857304.pdf?src-supplier=Element14; Supplier Part Number 1: 9241027
footprint RC1206
pins: 1, 2

## SI2336DS-T1-GE3
designator Q?, comment powermosfet
MOSFET N-CH 30V 5.2A SOT-23; Manufacturer: Vishay Siliconix; Manufacturer Part Number: SI2336DS-T1-GE3; Rds On Max: 42mR; Input Capacitance: 560pF; Gate to Source Voltage (Vgs): 8V; Element Configuration: Single; Max Power Dissipation: 1.8W; Number of Elements: 1; Power Dissipation: 1.25W; Rise Time: 10ns; Nominal Vgs: 400mV; Turn-Off Delay Time: 20ns; Turn-On Delay Time: 6ns; Polarity: N-CHANNEL; RoHS: Yes; Category: MOSFETs; Stock 1: 10813; Pricing 1: 1=0.51400, 10=0.35200, 100=0.26600, 500=0.21000, 1000=0.18300, 5000=0.15400 (EUR); Mount: Surface Mount; Case/Package: SOT-23; Number of Pins: 3; Weight: 0.050717oz; Min Operating Temperature: -55°C; Max Operating Temperature: 150°C; Packaging: Tape and Reel; Package Quantity: 1; Continuous Drain Current (ID): 5.2A; Drain to Source Voltage (Vdss): 30V; Drain to Source Resistance: 42mR; Fall Time: 10ns; Threshold Voltage: 400mV; Number of Channels: 1; Series: TrenchFET®; REACH SVHC: No SVHC; Lead Free: Lead Free; RoHS Compliant: Yes; ComponentLink1URL: https://datasheet.ciiva.com/11160/si2336ds-11160912.pdf?src-supplier=Avnet; ComponentLink1Description: https://datasheet.ciiva.com/11160/si2336ds-11160912.pdf?src-supplier=Avnet; ComponentLink2URL: https://datasheet.ciiva.com/4440/si2336ds-260499-4440346.pdf?src-supplier=Mouser; ComponentLink2Description: https://datasheet.ciiva.com/4440/si2336ds-260499-4440346.pdf?src-supplier=Mouser; ComponentLink3URL: https://datasheet.ciiva.com/22697/1915678-22697818.pdf?src-supplier=Element14; ComponentLink3Description: https://datasheet.ciiva.com/22697/1915678-22697818.pdf?src-supplier=Element14; ComponentLink4URL: https://datasheet.ciiva.com/6373/si2336ds-6373839.pdf?src-supplier=Digi-Key; ComponentLink4Description: https://datasheet.ciiva.com/6373/si2336ds-6373839.pdf?src-supplier=Digi-Key; ComponentLink5URL: https://datasheet.ciiva.com/7788/si2336ds-7788767.pdf?src-supplier=Element14; ComponentLink5Description: https://datasheet.ciiva.com/7788/si2336ds-7788767.pdf?src-supplier=Element14; ComponentLink6URL: https://datasheet.ciiva.com/6373/si2336ds-6373836.pdf?src-supplier=Digi-Key; ComponentLink6Description: https://datasheet.ciiva.com/6373/si2336ds-6373836.pdf?src-supplier=Digi-Key; ComponentLink7URL: https://datasheet.ciiva.com/6376/si2336ds-6376271.pdf?src-supplier=Digi-Key; ComponentLink7Description: https://datasheet.ciiva.com/6376/si2336ds-6376271.pdf?src-supplier=Digi-Key; Supplier 1: Farnell; Supplier Part Number 1: 1858945
footprint SI2336DS-T1-GE3 - duplicate
pins: 1 G, 2 S, 3 D

## T101MH9ABE
designator S?, comment power switch
SWITCH TOGGLE SPDT 0.4VA 20V; Manufacturer: ITT C&K; Manufacturer Part Number: T101MH9ABE; Actuator Material: Brass,Chrome; Actuator Color: Chrome; Contact Current Rating: 400mA; Contact Resistance: 20mR; Number of Poles: 1; Power Rating: 400mW; Illumination Type: Non-Illuminated,Illuminated; Electrical Life: 60000Cycles; Current Rating: 20mA; Switch Function: On-On; Actuator Type: Standard Round; Actuator Length: 5.33mm; Supplier 1: Farnell; RoHS: Yes; Category: Toggle Switches; Stock 1: 304; Pricing 1: 1=5.00000, 5=4.75000, 10=4.50000, 20=4.30000, 50=4.09000 (EUR); Mount: Through Hole,Brackets,PCB; Contact Material: Gold,Copper Alloy; Contact Plating: Gold,Nickel; Housing Material: Stainless Steel; Min Operating Temperature: -30°C; Max Operating Temperature: 85°C; Throw Configuration: SPDT; Max Voltage Rating (DC): 20V; Termination: PC Pins; Voltage Rating (AC): 20V; Voltage Rating (DC): 20V; Packaging: Bulk; Max Voltage Rating (AC): 20V; Package Quantity: 1; Orientation: Right Angle; Series: T; Length: 8.13mm; Width: 8.1mm; Height: 5mm; Radiation Hardening: No; REACH SVHC: No SVHC; Lead Free: Lead Free; RoHS Compliant: Yes; ComponentLink1URL: https://datasheet.ciiva.com/7986/49548-7986817.pdf?src-supplier=Element14; ComponentLink1Description: https://datasheet.ciiva.com/7986/49548-7986817.pdf?src-supplier=Element14; ComponentLink2URL: https://datasheet.ciiva.com/19467/595956-19467316.pdf?src-supplier=Jameco; ComponentLink2Description: https://datasheet.ciiva.com/19467/595956-19467316.pdf?src-supplier=Jameco; ComponentLink3URL: https://datasheet.ciiva.com/18143/getdatasheetpartid-116123-18143142.pdf?src-supplier=Verical; ComponentLink3Description: https://datasheet.ciiva.com/18143/getdatasheetpartid-116123-18143142.pdf?src-supplier=Verical; ComponentLink4URL: https://datasheet.ciiva.com/2906/t-toggle-29jul14-2906940.pdf?src-supplier=Digi-Key; ComponentLink4Description: https://datasheet.ciiva.com/2906/t-toggle-29jul14-2906940.pdf?src-supplier=Digi-Key; ComponentLink5URL: https://datasheet.ciiva.com/7986/1695318-7986815.pdf?src-supplier=Element14; ComponentLink5Description: https://datasheet.ciiva.com/7986/1695318-7986815.pdf?src-supplier=Element14; Supplier Part Number 1: 9575685
footprint T101MH9ABE
pins: 1, 2, 3